# Altium footprint library Potentiometer.PcbLib: 3 footprints
Each footprint in its own frame and in the unit in brackets; x right, y up, seen from the top. Pads: shape width x height; smd on the part's side, far side on the other; paste and mask are expansions set on the pad; w line width, h text height; cw(c..) or ccw(c..) is an arc to the next point about the centre after c.
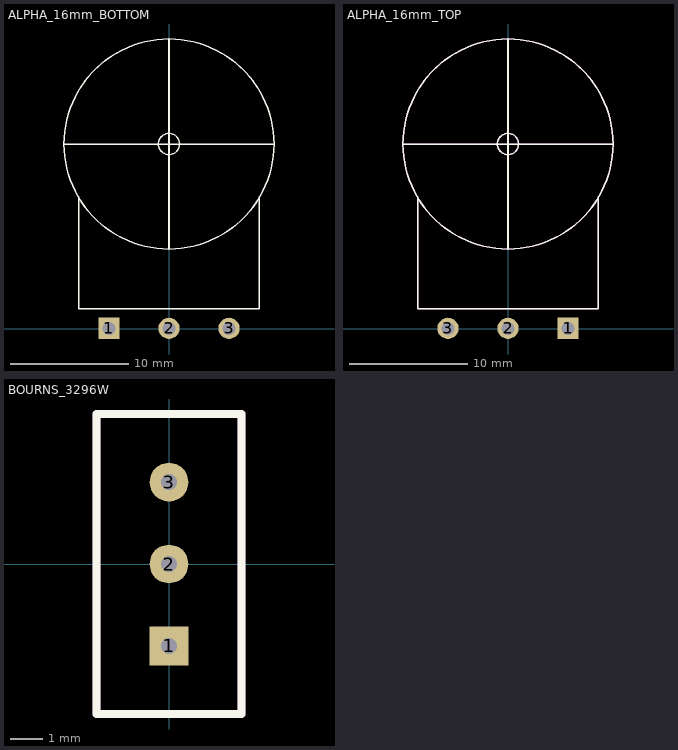
[diagram p0: the footprints below, top view; thin cyan lines are the x and y axes]

## ALPHA_16mm_BOTTOM [mil]
pads (3):
  rect 70.87x70.87 hole 43.31: 1(-200,0.63)
  round 70.87 hole 43.31: 2(0,0.63) 3(200,0.63)
Top Overlay:
  circle w5: c0,615 r35.35
  circle w5: c0,615 r35.35
  lines w5: -350,615 ccw(c0,615) 0,265 ; -350,615 cw(c0,615) 0,965 ; -350,615 cw(c0,615) 0,965 ; -350,615 ccw(c0,615) 0,265 ; -350,615 350,615 ; -350,615 350,615 ; -300,65.63 -300,440 -300,65.63 ; -300,65.63 300,65.63 ; -300,65.63 300,65.63 ; 0,265 ccw(c0,615) 350,615 ; 0,265 ccw(c0,615) 350,615 ; 0,265 0,965 ; 0,265 0,965 ; 0,965 cw(c0,615) 350,615 ; 0,965 cw(c0,615) 350,615 ; 300,65.63 300,440 300,65.63
3D body "ALPHA_16mm.STEP": height 1066.62, standoff -134.16, extent -354,-12.25 354.66,982.25
3D body: height 10, standoff 0, extent 445,545 445,545
3D body: height 10, standoff 0, extent 445,560 445,560

## ALPHA_16mm_TOP [mil]
pads (3):
  rect 70.87x70.87 hole 43.31: 1(200,0.63)
  round 70.87 hole 43.31: 2(0,0.63) 3(-200,0.63)
Top Overlay:
  circle w5: c0,615 r35.35
  lines w5: -300,440 -300,65.63 300,65.63 300,440 ; -350,615 ccw(c0,615) 0,265 ; -350,615 cw(c0,615) 0,965 ; -350,615 350,615 ; 0,265 ccw(c0,615) 350,615 ; 0,265 0,965 ; 0,965 cw(c0,615) 350,615
Mechanical 2:
  circle w5: c0,615 r35.35
  lines w5: -300,440 -300,65.63 300,65.63 300,440 ; -350,615 cw(c0,615) 0,965 ; -350,615 ccw(c0,615) 0,265 ; -350,615 350,615 ; 0,265 ccw(c0,615) 350,615 ; 0,265 0,965 ; 0,965 cw(c0,615) 350,615
3D body "User Library-User Library-Potentiometer.STEP": height 960, standoff 10, extent -330,-16 330,966
3D body: height 10, standoff 0, extent 445,545 445,545
3D body: height 10, standoff 0, extent 445,560 445,560

## BOURNS_3296W [mil]
pads (3):
  rect 47.24x47.24 hole 19.69: 1(0,-100)
  round 47.24 hole 19.69: 2(0,0) 3(0,100)
Top Overlay:
  lines w10: -88.58,-183.07 88.58,-183.07 88.58,183.07 -88.58,183.07 -88.58,-183.07
Mechanical 2:
  lines w10: -88.58,-183.07 88.58,-183.07 88.58,183.07 -88.58,183.07 -88.58,-183.07
3D body "BOURNS_3296W.STEP": height 454.72, standoff -300, extent -95.08,-187.59 95.08,187.61